# Altium integrated library Texas Instruments Interface RS-232.IntLib: 1272 symbols (part 1 of 37)
Pins are listed as number, name and electrical type; pins without a type are passive.

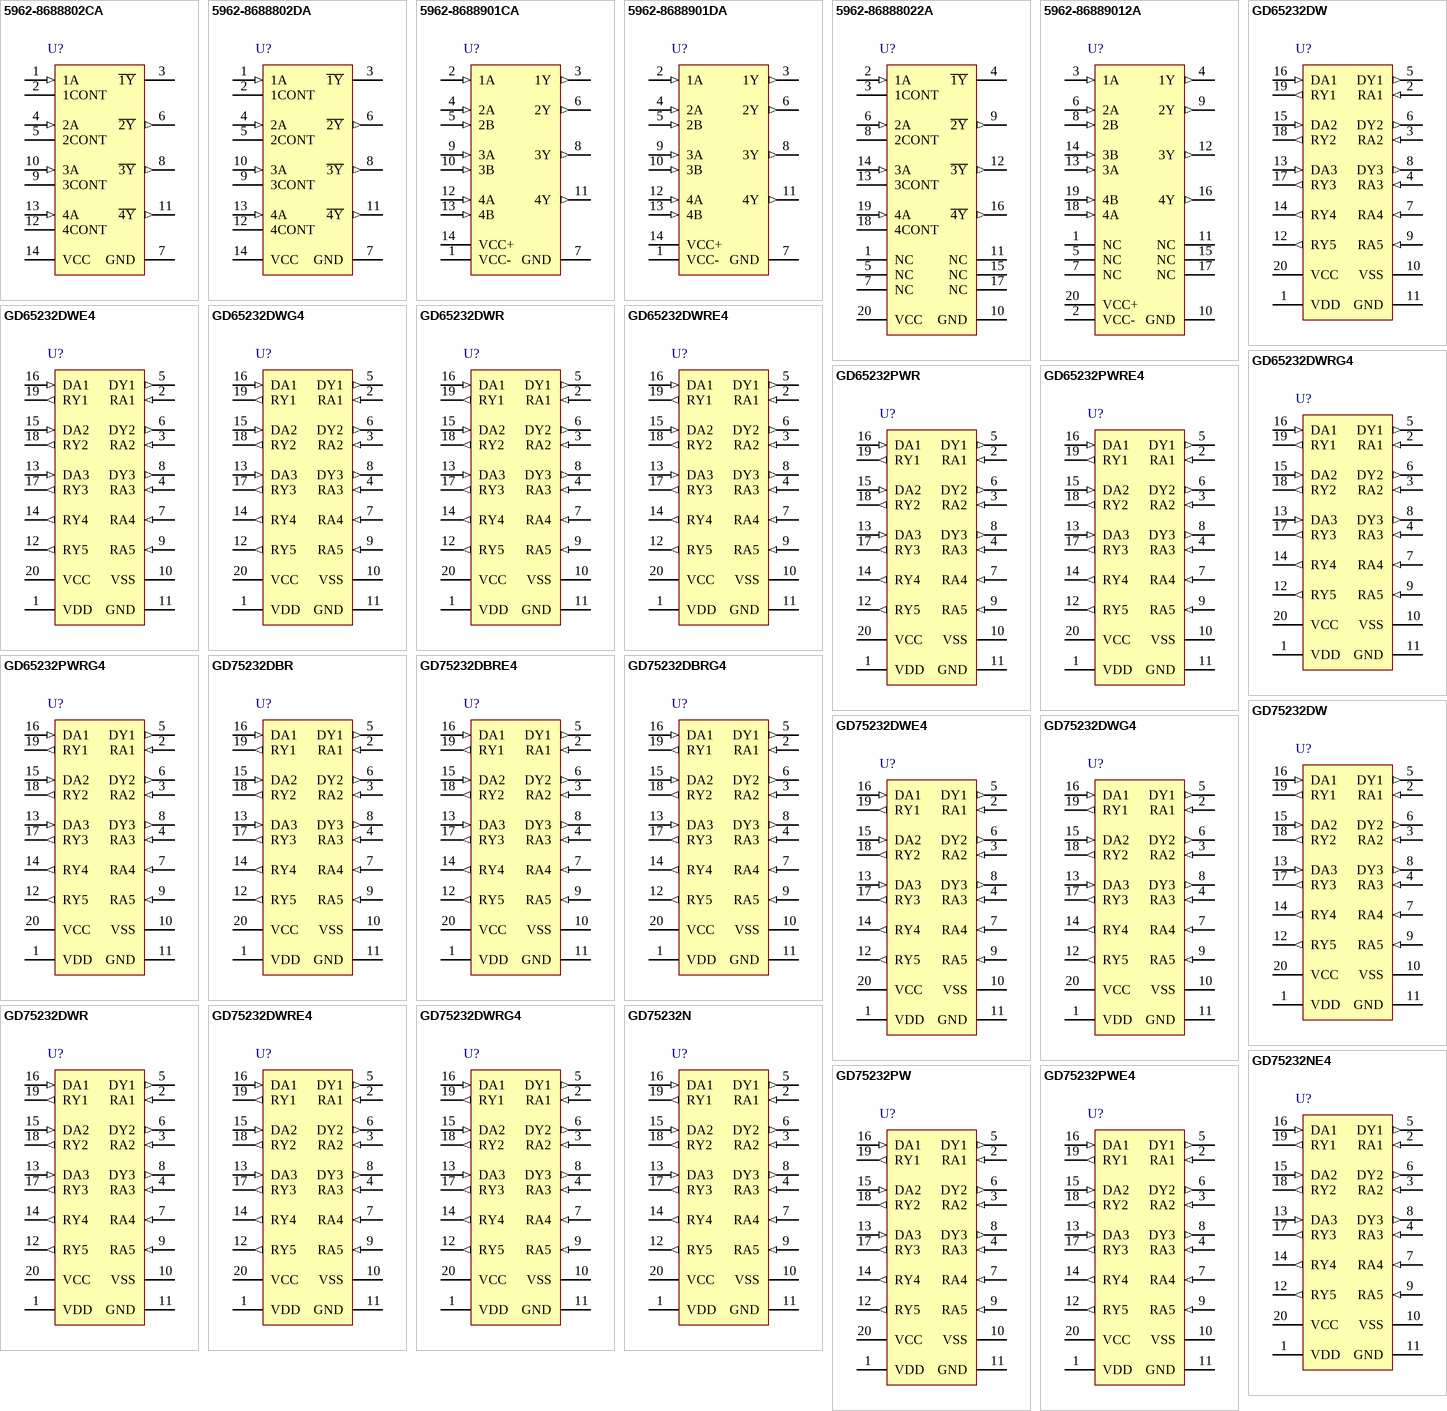
[diagram p0: symbols 5962-8688802CA to GD75232PWE4]

## 5962-8688802CA
designator U?
Quadruple Line Receiver, -55 to 125 degC, 14-Pin CDIP (J); SubFamily: RS-232; Receivers Per Package: 4; Supply Voltage(s)(V): 5; ICC(Max)(mA): 26; Single Supply: TRUE; DatasheetVersion: SLLS095D; PackageVersion: revF, Mar-2003; PackageReference: J14; PackageDescription: 14-Pin Ceramic Dual-In-Line Package, Row Spacing 7.62 mm, Pitch 2.54 mm; RS-232: TRUE; ComponentLink1Description: Manufacturer URL; ComponentLink1URL: www.ti.com; ComponentLink2Description: Datasheet; ComponentLink2URL: http://www.ti.com/general/docs/lit/getliterature.tsp?genericPartNumber=SN55189A&fileType=pdf; ComponentLink3Description: Package Specification; ComponentLink3URL: http://www.ti.com/litv/pdf/mcer002d
footprint TI-J14 (DIP, 14-Leads, Row Spacing 7.62mm, Pitch 2.54mm, Body 19.9x6.9mm)
pins: 1 1A (in), 2 1CONT, 3 ~{1Y} (oc), 4 2A (in), 5 2CONT, 6 ~{2Y} (out), 7 GND (power), 8 ~{3Y} (out), 9 3CONT, 10 3A (in), 11 ~{4Y} (out), 12 4CONT, 13 4A (in), 14 VCC (power)

## 5962-8688802DA
designator U?
Quadruple Line Receiver, -55 to 125 degC, 14-Pin CFP (W); SubFamily: RS-232; Receivers Per Package: 4; Supply Voltage(s)(V): 5; ICC(Max)(mA): 26; Single Supply: TRUE; DatasheetVersion: SLLS095D; PackageVersion: revD, Jul-2003; PackageReference: W14; PackageDescription: 14-Lead Ceramic Dual Flatpack, Body 9.9 x 6.6 mm (LxW max), Pitch 1.27 mm; RS-232: TRUE; ComponentLink1Description: Manufacturer URL; ComponentLink1URL: www.ti.com; ComponentLink2Description: Datasheet; ComponentLink2URL: http://www.ti.com/general/docs/lit/getliterature.tsp?genericPartNumber=SN55189A&fileType=pdf; ComponentLink3Description: Package Specification; ComponentLink3URL: http://www.ti.com/litv/pdf/mcfp002a
footprint TI-W14 (DFP, 14 Leads, Body 9.2x6.3mm, Pitch 1.27mm, Gullwing Leadform)
pins: 1 1A (in), 2 1CONT, 3 ~{1Y} (oc), 4 2A (in), 5 2CONT, 6 ~{2Y} (out), 7 GND (power), 8 ~{3Y} (out), 9 3CONT, 10 3A (in), 11 ~{4Y} (out), 12 4CONT, 13 4A (in), 14 VCC (power)

## 5962-8688901CA
designator U?
Quadruple Line Driver, -55 to 125 degC, 14-Pin CDIP (J); SubFamily: RS-232; Drivers Per Package: 4; Supply Voltage(s)(V): +/-9.0; ICC(Max)(mA): +/-34; RS-232: TRUE; DatasheetVersion: SLLS094C; PackageVersion: revF, Mar-2003; PackageReference: J14; PackageDescription: 14-Pin Ceramic Dual-In-Line Package, Row Spacing 7.62 mm, Pitch 2.54 mm; ComponentLink1Description: Manufacturer URL; ComponentLink1URL: www.ti.com; ComponentLink2Description: Datasheet; ComponentLink2URL: http://www.ti.com/general/docs/lit/getliterature.tsp?genericPartNumber=SN55188&fileType=pdf; ComponentLink3Description: Package Specification; ComponentLink3URL: http://www.ti.com/litv/pdf/mcer002d
footprint TI-J14 (DIP, 14-Leads, Row Spacing 7.62mm, Pitch 2.54mm, Body 19.9x6.9mm)
pins: 1 VCC- (power), 2 1A (in), 3 1Y (out), 4 2A (in), 5 2B (in), 6 2Y (out), 7 GND (power), 8 3Y (out), 9 3A (in), 10 3B (in), 11 4Y (out), 12 4A (in), 13 4B (in), 14 VCC+ (power)

## 5962-8688901DA
designator U?
Quadruple Line Driver, -55 to 125 degC, 14-Pin CFP (W); SubFamily: RS-232; Drivers Per Package: 4; Supply Voltage(s)(V): +/-9.0; ICC(Max)(mA): +/-34; RS-232: TRUE; DatasheetVersion: SLLS094C; PackageVersion: revD, Jul-2003; PackageReference: W14; PackageDescription: 14-Lead Ceramic Dual Flatpack, Body 9.9 x 6.6 mm (LxW max), Pitch 1.27 mm; ComponentLink1Description: Manufacturer URL; ComponentLink1URL: www.ti.com; ComponentLink2Description: Datasheet; ComponentLink2URL: http://www.ti.com/general/docs/lit/getliterature.tsp?genericPartNumber=SN55188&fileType=pdf; ComponentLink3Description: Package Specification; ComponentLink3URL: http://www.ti.com/litv/pdf/mcfp002a
footprint TI-W14 (DFP, 14 Leads, Body 9.2x6.3mm, Pitch 1.27mm, Gullwing Leadform)
pins: 1 VCC- (power), 2 1A (in), 3 1Y (out), 4 2A (in), 5 2B (in), 6 2Y (out), 7 GND (power), 8 3Y (out), 9 3A (in), 10 3B (in), 11 4Y (out), 12 4A (in), 13 4B (in), 14 VCC+ (power)

## 5962-86888022A
designator U?
Quadruple Line Receiver, -55 to 125 degC, 20-Pin LCCC (FK); SubFamily: RS-232; Receivers Per Package: 4; Supply Voltage(s)(V): 5; ICC(Max)(mA): 26; Single Supply: TRUE; DatasheetVersion: SLLS095D; PackageVersion: revD, Jan-2011; PackageReference: FK20; PackageDescription: 20-Pin Leadless Ceramic Chip Carrier, 1.27 mm Pitch; RS-232: TRUE; ComponentLink1Description: Manufacturer URL; ComponentLink1URL: www.ti.com; ComponentLink2Description: Datasheet; ComponentLink2URL: http://www.ti.com/general/docs/lit/getliterature.tsp?genericPartNumber=SN55189A&fileType=pdf; ComponentLink3Description: Package Specification; ComponentLink3URL: http://www.ti.com/litv/pdf/mlcc006d
footprint TI-FK20_N (Leadless Chip Carrier, 20-Leads, Body 8.9x8.9mm, Pitch 1.27mm, IPC Medium Density)
footprint TI-FK20_L (Leadless Chip Carrier, 20-Leads, Body 8.9x8.9mm, Pitch 1.27mm, IPC High Density)
footprint TI-FK20_M (Leadless Chip Carrier, 20-Leads, Body 8.9x8.9mm, Pitch 1.27mm, IPC Low Density)
pins: 1 NC, 2 1A (in), 3 1CONT, 4 ~{1Y} (oc), 5 NC, 6 2A (in), 7 NC, 8 2CONT, 9 ~{2Y} (out), 10 GND (power), 11 NC, 12 ~{3Y} (out), 13 3CONT, 14 3A (in), 15 NC, 16 ~{4Y} (out), 17 NC, 18 4CONT, 19 4A (in), 20 VCC (power)

## 5962-86889012A
designator U?
Quadruple Line Driver, -55 to 125 degC, 20-Pin LCCC (FK); SubFamily: RS-232; Drivers Per Package: 4; Supply Voltage(s)(V): +/-9.0; ICC(Max)(mA): +/-34; RS-232: TRUE; DatasheetVersion: SLLS094C; PackageVersion: revD, Jan-2011; PackageReference: FK20; PackageDescription: 20-Pin Leadless Ceramic Chip Carrier, 1.27 mm Pitch; ComponentLink1Description: Manufacturer URL; ComponentLink1URL: www.ti.com; ComponentLink2Description: Datasheet; ComponentLink2URL: http://www.ti.com/general/docs/lit/getliterature.tsp?genericPartNumber=SN55188&fileType=pdf; ComponentLink3Description: Package Specification; ComponentLink3URL: http://www.ti.com/litv/pdf/mlcc006d
footprint TI-FK20_N (Leadless Chip Carrier, 20-Leads, Body 8.9x8.9mm, Pitch 1.27mm, IPC Medium Density)
footprint TI-FK20_L (Leadless Chip Carrier, 20-Leads, Body 8.9x8.9mm, Pitch 1.27mm, IPC High Density)
footprint TI-FK20_M (Leadless Chip Carrier, 20-Leads, Body 8.9x8.9mm, Pitch 1.27mm, IPC Low Density)
pins: 1 NC, 2 VCC- (power), 3 1A (in), 4 1Y (out), 5 NC, 6 2A (in), 7 NC, 8 2B (in), 9 2Y (out), 10 GND (power), 11 NC, 12 3Y (out), 13 3A (in), 14 3B (in), 15 NC, 16 4Y (out), 17 NC, 18 4A (in), 19 4B (in), 20 VCC+ (power)

## GD65232DW
designator U?
Multiple RS-232 Driver / Receiver, -40 to 85 degC, 20-Pin SOIC (DW), Green (RoHS & no Sb/Br); Drivers Per Package: 3; Receivers Per Package: 5; Supply Voltage(s)(V): +/-9.0 & 5.0; ICC(Max)(mA): +/-25 & 38; RS-232: TRUE; DatasheetVersion: SLLS206J; PackageVersion: revG, Jan-2011; PackageReference: DW20; PackageDescription: 20-Pin Plastic Small Outline Integrated Circuit, 12.8 x 7.5 mm, Pitch 1.27 mm Pitch; SubFamily: RS-232; ComponentLink1Description: Manufacturer URL; ComponentLink1URL: www.ti.com; ComponentLink2Description: Datasheet; ComponentLink2URL: http://www.ti.com/general/docs/lit/getliterature.tsp?genericPartNumber=GD65232&fileType=pdf; ComponentLink3Description: Package Specification; ComponentLink3URL: http://www.ti.com/litv/pdf/mpds173a
footprint TI-DW20_N (SOIC, 20-Leads, Body 12.8x7.5mm, Pitch 1.27mm, IPC Medium Density)
footprint TI-DW20_L (SOIC, 20-Leads, Body 12.8x7.5mm, Pitch 1.27mm, IPC High Density)
footprint TI-DW20_M (SOIC, 20-Leads, Body 12.8x7.5mm, Pitch 1.27mm, IPC Low Density)
pins: 1 VDD (power), 2 RA1 (in), 3 RA2 (in), 4 RA3 (in), 5 DY1 (out), 6 DY2 (out), 7 RA4 (in), 8 DY3 (out), 9 RA5 (in), 10 VSS (power), 11 GND (power), 12 RY5 (out), 13 DA3 (in), 14 RY4 (out), 15 DA2 (in), 16 DA1 (in), 17 RY3 (out), 18 RY2 (out), 19 RY1 (out), 20 VCC (power)

## GD65232DWE4
designator U?
Multiple RS-232 Driver / Receiver, -40 to 85 degC, 20-Pin SOIC (DW), Green (RoHS & no Sb/Br); Drivers Per Package: 3; Receivers Per Package: 5; Supply Voltage(s)(V): +/-9.0 & 5.0; ICC(Max)(mA): +/-25 & 38; RS-232: TRUE; DatasheetVersion: SLLS206J; PackageVersion: revG, Jan-2011; PackageReference: DW20; PackageDescription: 20-Pin Plastic Small Outline Integrated Circuit, 12.8 x 7.5 mm, Pitch 1.27 mm Pitch; SubFamily: RS-232; ComponentLink1Description: Manufacturer URL; ComponentLink1URL: www.ti.com; ComponentLink2Description: Datasheet; ComponentLink2URL: http://www.ti.com/general/docs/lit/getliterature.tsp?genericPartNumber=GD65232&fileType=pdf; ComponentLink3Description: Package Specification; ComponentLink3URL: http://www.ti.com/litv/pdf/mpds173a
footprint TI-DW20_N (SOIC, 20-Leads, Body 12.8x7.5mm, Pitch 1.27mm, IPC Medium Density)
footprint TI-DW20_L (SOIC, 20-Leads, Body 12.8x7.5mm, Pitch 1.27mm, IPC High Density)
footprint TI-DW20_M (SOIC, 20-Leads, Body 12.8x7.5mm, Pitch 1.27mm, IPC Low Density)
pins: 1 VDD (power), 2 RA1 (in), 3 RA2 (in), 4 RA3 (in), 5 DY1 (out), 6 DY2 (out), 7 RA4 (in), 8 DY3 (out), 9 RA5 (in), 10 VSS (power), 11 GND (power), 12 RY5 (out), 13 DA3 (in), 14 RY4 (out), 15 DA2 (in), 16 DA1 (in), 17 RY3 (out), 18 RY2 (out), 19 RY1 (out), 20 VCC (power)

## GD65232DWG4
designator U?
Multiple RS-232 Driver / Receiver, -40 to 85 degC, 20-Pin SOIC (DW), Green (RoHS & no Sb/Br); Drivers Per Package: 3; Receivers Per Package: 5; Supply Voltage(s)(V): +/-9.0 & 5.0; ICC(Max)(mA): +/-25 & 38; RS-232: TRUE; DatasheetVersion: SLLS206J; PackageVersion: revG, Jan-2011; PackageReference: DW20; PackageDescription: 20-Pin Plastic Small Outline Integrated Circuit, 12.8 x 7.5 mm, Pitch 1.27 mm Pitch; SubFamily: RS-232; ComponentLink1Description: Manufacturer URL; ComponentLink1URL: www.ti.com; ComponentLink2Description: Datasheet; ComponentLink2URL: http://www.ti.com/general/docs/lit/getliterature.tsp?genericPartNumber=GD65232&fileType=pdf; ComponentLink3Description: Package Specification; ComponentLink3URL: http://www.ti.com/litv/pdf/mpds173a
footprint TI-DW20_N (SOIC, 20-Leads, Body 12.8x7.5mm, Pitch 1.27mm, IPC Medium Density)
footprint TI-DW20_L (SOIC, 20-Leads, Body 12.8x7.5mm, Pitch 1.27mm, IPC High Density)
footprint TI-DW20_M (SOIC, 20-Leads, Body 12.8x7.5mm, Pitch 1.27mm, IPC Low Density)
pins: 1 VDD (power), 2 RA1 (in), 3 RA2 (in), 4 RA3 (in), 5 DY1 (out), 6 DY2 (out), 7 RA4 (in), 8 DY3 (out), 9 RA5 (in), 10 VSS (power), 11 GND (power), 12 RY5 (out), 13 DA3 (in), 14 RY4 (out), 15 DA2 (in), 16 DA1 (in), 17 RY3 (out), 18 RY2 (out), 19 RY1 (out), 20 VCC (power)

## GD65232DWR
designator U?
Multiple RS-232 Driver / Receiver, -40 to 85 degC, 20-Pin SOIC (DW), Green (RoHS & no Sb/Br); Drivers Per Package: 3; Receivers Per Package: 5; Supply Voltage(s)(V): +/-9.0 & 5.0; ICC(Max)(mA): +/-25 & 38; RS-232: TRUE; DatasheetVersion: SLLS206J; PackageVersion: revG, Jan-2011; PackageReference: DW20; PackageDescription: 20-Pin Plastic Small Outline Integrated Circuit, 12.8 x 7.5 mm, Pitch 1.27 mm Pitch; SubFamily: RS-232; ComponentLink1Description: Manufacturer URL; ComponentLink1URL: www.ti.com; ComponentLink2Description: Datasheet; ComponentLink2URL: http://www.ti.com/general/docs/lit/getliterature.tsp?genericPartNumber=GD65232&fileType=pdf; ComponentLink3Description: Package Specification; ComponentLink3URL: http://www.ti.com/litv/pdf/mpds173a
footprint TI-DW20_N (SOIC, 20-Leads, Body 12.8x7.5mm, Pitch 1.27mm, IPC Medium Density)
footprint TI-DW20_L (SOIC, 20-Leads, Body 12.8x7.5mm, Pitch 1.27mm, IPC High Density)
footprint TI-DW20_M (SOIC, 20-Leads, Body 12.8x7.5mm, Pitch 1.27mm, IPC Low Density)
pins: 1 VDD (power), 2 RA1 (in), 3 RA2 (in), 4 RA3 (in), 5 DY1 (out), 6 DY2 (out), 7 RA4 (in), 8 DY3 (out), 9 RA5 (in), 10 VSS (power), 11 GND (power), 12 RY5 (out), 13 DA3 (in), 14 RY4 (out), 15 DA2 (in), 16 DA1 (in), 17 RY3 (out), 18 RY2 (out), 19 RY1 (out), 20 VCC (power)

## GD65232DWRE4
designator U?
Multiple RS-232 Driver / Receiver, -40 to 85 degC, 20-Pin SOIC (DW), Green (RoHS & no Sb/Br); Drivers Per Package: 3; Receivers Per Package: 5; Supply Voltage(s)(V): +/-9.0 & 5.0; ICC(Max)(mA): +/-25 & 38; RS-232: TRUE; DatasheetVersion: SLLS206J; PackageVersion: revG, Jan-2011; PackageReference: DW20; PackageDescription: 20-Pin Plastic Small Outline Integrated Circuit, 12.8 x 7.5 mm, Pitch 1.27 mm Pitch; SubFamily: RS-232; ComponentLink1Description: Manufacturer URL; ComponentLink1URL: www.ti.com; ComponentLink2Description: Datasheet; ComponentLink2URL: http://www.ti.com/general/docs/lit/getliterature.tsp?genericPartNumber=GD65232&fileType=pdf; ComponentLink3Description: Package Specification; ComponentLink3URL: http://www.ti.com/litv/pdf/mpds173a
footprint TI-DW20_N (SOIC, 20-Leads, Body 12.8x7.5mm, Pitch 1.27mm, IPC Medium Density)
footprint TI-DW20_L (SOIC, 20-Leads, Body 12.8x7.5mm, Pitch 1.27mm, IPC High Density)
footprint TI-DW20_M (SOIC, 20-Leads, Body 12.8x7.5mm, Pitch 1.27mm, IPC Low Density)
pins: 1 VDD (power), 2 RA1 (in), 3 RA2 (in), 4 RA3 (in), 5 DY1 (out), 6 DY2 (out), 7 RA4 (in), 8 DY3 (out), 9 RA5 (in), 10 VSS (power), 11 GND (power), 12 RY5 (out), 13 DA3 (in), 14 RY4 (out), 15 DA2 (in), 16 DA1 (in), 17 RY3 (out), 18 RY2 (out), 19 RY1 (out), 20 VCC (power)

## GD65232DWRG4
designator U?
Multiple RS-232 Driver / Receiver, -40 to 85 degC, 20-Pin SOIC (DW), Green (RoHS & no Sb/Br); Drivers Per Package: 3; Receivers Per Package: 5; Supply Voltage(s)(V): +/-9.0 & 5.0; ICC(Max)(mA): +/-25 & 38; RS-232: TRUE; DatasheetVersion: SLLS206J; PackageVersion: revG, Jan-2011; PackageReference: DW20; PackageDescription: 20-Pin Plastic Small Outline Integrated Circuit, 12.8 x 7.5 mm, Pitch 1.27 mm Pitch; SubFamily: RS-232; ComponentLink1Description: Manufacturer URL; ComponentLink1URL: www.ti.com; ComponentLink2Description: Datasheet; ComponentLink2URL: http://www.ti.com/general/docs/lit/getliterature.tsp?genericPartNumber=GD65232&fileType=pdf; ComponentLink3Description: Package Specification; ComponentLink3URL: http://www.ti.com/litv/pdf/mpds173a
footprint TI-DW20_N (SOIC, 20-Leads, Body 12.8x7.5mm, Pitch 1.27mm, IPC Medium Density)
footprint TI-DW20_L (SOIC, 20-Leads, Body 12.8x7.5mm, Pitch 1.27mm, IPC High Density)
footprint TI-DW20_M (SOIC, 20-Leads, Body 12.8x7.5mm, Pitch 1.27mm, IPC Low Density)
pins: 1 VDD (power), 2 RA1 (in), 3 RA2 (in), 4 RA3 (in), 5 DY1 (out), 6 DY2 (out), 7 RA4 (in), 8 DY3 (out), 9 RA5 (in), 10 VSS (power), 11 GND (power), 12 RY5 (out), 13 DA3 (in), 14 RY4 (out), 15 DA2 (in), 16 DA1 (in), 17 RY3 (out), 18 RY2 (out), 19 RY1 (out), 20 VCC (power)

## GD65232PWR
designator U?
Multiple RS-232 Driver / Receiver, -40 to 85 degC, 20-Pin TSSOP (PW), Green (RoHS & no Sb/Br); Drivers Per Package: 3; Receivers Per Package: 5; Supply Voltage(s)(V): +/-9.0 & 5.0; ICC(Max)(mA): +/-25 & 38; RS-232: TRUE; DatasheetVersion: SLLS206J; PackageVersion: revG, Feb-2011; PackageReference: PW20; PackageDescription: 20-Pin Plastic Thin Small Outline Package 6.5 x 4.4 mm Body ,0.65 mm Pitch; SubFamily: RS-232; ComponentLink1Description: Manufacturer URL; ComponentLink1URL: www.ti.com; ComponentLink2Description: Datasheet; ComponentLink2URL: http://www.ti.com/general/docs/lit/getliterature.tsp?genericPartNumber=GD65232&fileType=pdf; ComponentLink3Description: Package Specification; ComponentLink3URL: http://www.ti.com/litv/pdf/mpds362
footprint TI-PW20_N (TSOP, 20-Leads, Body 6.5x4.4mm, Pitch 0.65mm, IPC Medium Density)
footprint TI-PW20_L (TSOP, 20-Leads, Body 6.5x4.4mm, Pitch 0.65mm, IPC High Density)
footprint TI-PW20_M (TSOP, 20-Leads, Body 6.5x4.4mm, Pitch 0.65mm, IPC Low Density)
pins: 1 VDD (power), 2 RA1 (in), 3 RA2 (in), 4 RA3 (in), 5 DY1 (out), 6 DY2 (out), 7 RA4 (in), 8 DY3 (out), 9 RA5 (in), 10 VSS (power), 11 GND (power), 12 RY5 (out), 13 DA3 (in), 14 RY4 (out), 15 DA2 (in), 16 DA1 (in), 17 RY3 (out), 18 RY2 (out), 19 RY1 (out), 20 VCC (power)

## GD65232PWRE4
designator U?
Multiple RS-232 Driver / Receiver, -40 to 85 degC, 20-Pin TSSOP (PW), Green (RoHS & no Sb/Br); Drivers Per Package: 3; Receivers Per Package: 5; Supply Voltage(s)(V): +/-9.0 & 5.0; ICC(Max)(mA): +/-25 & 38; RS-232: TRUE; DatasheetVersion: SLLS206J; PackageVersion: revG, Feb-2011; PackageReference: PW20; PackageDescription: 20-Pin Plastic Thin Small Outline Package 6.5 x 4.4 mm Body ,0.65 mm Pitch; SubFamily: RS-232; ComponentLink1Description: Manufacturer URL; ComponentLink1URL: www.ti.com; ComponentLink2Description: Datasheet; ComponentLink2URL: http://www.ti.com/general/docs/lit/getliterature.tsp?genericPartNumber=GD65232&fileType=pdf; ComponentLink3Description: Package Specification; ComponentLink3URL: http://www.ti.com/litv/pdf/mpds362
footprint TI-PW20_N (TSOP, 20-Leads, Body 6.5x4.4mm, Pitch 0.65mm, IPC Medium Density)
footprint TI-PW20_L (TSOP, 20-Leads, Body 6.5x4.4mm, Pitch 0.65mm, IPC High Density)
footprint TI-PW20_M (TSOP, 20-Leads, Body 6.5x4.4mm, Pitch 0.65mm, IPC Low Density)
pins: 1 VDD (power), 2 RA1 (in), 3 RA2 (in), 4 RA3 (in), 5 DY1 (out), 6 DY2 (out), 7 RA4 (in), 8 DY3 (out), 9 RA5 (in), 10 VSS (power), 11 GND (power), 12 RY5 (out), 13 DA3 (in), 14 RY4 (out), 15 DA2 (in), 16 DA1 (in), 17 RY3 (out), 18 RY2 (out), 19 RY1 (out), 20 VCC (power)

## GD65232PWRG4
designator U?
Multiple RS-232 Driver / Receiver, -40 to 85 degC, 20-Pin TSSOP (PW), Green (RoHS & no Sb/Br); Drivers Per Package: 3; Receivers Per Package: 5; Supply Voltage(s)(V): +/-9.0 & 5.0; ICC(Max)(mA): +/-25 & 38; RS-232: TRUE; DatasheetVersion: SLLS206J; PackageVersion: revG, Feb-2011; PackageReference: PW20; PackageDescription: 20-Pin Plastic Thin Small Outline Package 6.5 x 4.4 mm Body ,0.65 mm Pitch; SubFamily: RS-232; ComponentLink1Description: Manufacturer URL; ComponentLink1URL: www.ti.com; ComponentLink2Description: Datasheet; ComponentLink2URL: http://www.ti.com/general/docs/lit/getliterature.tsp?genericPartNumber=GD65232&fileType=pdf; ComponentLink3Description: Package Specification; ComponentLink3URL: http://www.ti.com/litv/pdf/mpds362
footprint TI-PW20_N (TSOP, 20-Leads, Body 6.5x4.4mm, Pitch 0.65mm, IPC Medium Density)
footprint TI-PW20_L (TSOP, 20-Leads, Body 6.5x4.4mm, Pitch 0.65mm, IPC High Density)
footprint TI-PW20_M (TSOP, 20-Leads, Body 6.5x4.4mm, Pitch 0.65mm, IPC Low Density)
pins: 1 VDD (power), 2 RA1 (in), 3 RA2 (in), 4 RA3 (in), 5 DY1 (out), 6 DY2 (out), 7 RA4 (in), 8 DY3 (out), 9 RA5 (in), 10 VSS (power), 11 GND (power), 12 RY5 (out), 13 DA3 (in), 14 RY4 (out), 15 DA2 (in), 16 DA1 (in), 17 RY3 (out), 18 RY2 (out), 19 RY1 (out), 20 VCC (power)

## GD75232DBR
designator U?
Multiple RS-232 Driver / Receiver, 0 to 70 degC, 20-Pin SSOP (DB), Green (RoHS & no Sb/Br); Drivers Per Package: 3; Receivers Per Package: 5; Supply Voltage(s)(V): +/-9.0 & 5.0; ICC(Max)(mA): +/-25 & 30; RS-232: TRUE; DatasheetVersion: SLLS206J; PackageVersion: revE, Dec-2001; PackageReference: DB20; PackageDescription: 20-Pin Plastic Small Outline Package, 7.2 x 5.3 mm Body, 0.65 mm Pitch; SubFamily: RS-232; ComponentLink1Description: Manufacturer URL; ComponentLink1URL: www.ti.com; ComponentLink2Description: Datasheet; ComponentLink2URL: http://www.ti.com/general/docs/lit/getliterature.tsp?genericPartNumber=GD75232&fileType=pdf; ComponentLink3Description: Package Specification; ComponentLink3URL: http://www.ti.com/litv/pdf/msso002e
footprint TI-DB20_N (SOP, 20-Leads, Body 7.2x5.3mm, Pitch 0.65mm, IPC Medium Density)
footprint TI-DB20_L (SOP, 20-Leads, Body 7.2x5.3mm, Pitch 0.65mm, IPC High Density)
footprint TI-DB20_M (SOP, 20-Leads, Body 7.2x5.3mm, Pitch 0.65mm, IPC Low Density)
pins: 1 VDD (power), 2 RA1 (in), 3 RA2 (in), 4 RA3 (in), 5 DY1 (out), 6 DY2 (out), 7 RA4 (in), 8 DY3 (out), 9 RA5 (in), 10 VSS (power), 11 GND (power), 12 RY5 (out), 13 DA3 (in), 14 RY4 (out), 15 DA2 (in), 16 DA1 (in), 17 RY3 (out), 18 RY2 (out), 19 RY1 (out), 20 VCC (power)

## GD75232DBRE4
designator U?
Multiple RS-232 Driver / Receiver, 0 to 70 degC, 20-Pin SSOP (DB), Green (RoHS & no Sb/Br); Drivers Per Package: 3; Receivers Per Package: 5; Supply Voltage(s)(V): +/-9.0 & 5.0; ICC(Max)(mA): +/-25 & 30; RS-232: TRUE; DatasheetVersion: SLLS206J; PackageVersion: revE, Dec-2001; PackageReference: DB20; PackageDescription: 20-Pin Plastic Small Outline Package, 7.2 x 5.3 mm Body, 0.65 mm Pitch; SubFamily: RS-232; ComponentLink1Description: Manufacturer URL; ComponentLink1URL: www.ti.com; ComponentLink2Description: Datasheet; ComponentLink2URL: http://www.ti.com/general/docs/lit/getliterature.tsp?genericPartNumber=GD75232&fileType=pdf; ComponentLink3Description: Package Specification; ComponentLink3URL: http://www.ti.com/litv/pdf/msso002e
footprint TI-DB20_N (SOP, 20-Leads, Body 7.2x5.3mm, Pitch 0.65mm, IPC Medium Density)
footprint TI-DB20_L (SOP, 20-Leads, Body 7.2x5.3mm, Pitch 0.65mm, IPC High Density)
footprint TI-DB20_M (SOP, 20-Leads, Body 7.2x5.3mm, Pitch 0.65mm, IPC Low Density)
pins: 1 VDD (power), 2 RA1 (in), 3 RA2 (in), 4 RA3 (in), 5 DY1 (out), 6 DY2 (out), 7 RA4 (in), 8 DY3 (out), 9 RA5 (in), 10 VSS (power), 11 GND (power), 12 RY5 (out), 13 DA3 (in), 14 RY4 (out), 15 DA2 (in), 16 DA1 (in), 17 RY3 (out), 18 RY2 (out), 19 RY1 (out), 20 VCC (power)

## GD75232DBRG4
designator U?
Multiple RS-232 Driver / Receiver, 0 to 70 degC, 20-Pin SSOP (DB), Green (RoHS & no Sb/Br); Drivers Per Package: 3; Receivers Per Package: 5; Supply Voltage(s)(V): +/-9.0 & 5.0; ICC(Max)(mA): +/-25 & 30; RS-232: TRUE; DatasheetVersion: SLLS206J; PackageVersion: revE, Dec-2001; PackageReference: DB20; PackageDescription: 20-Pin Plastic Small Outline Package, 7.2 x 5.3 mm Body, 0.65 mm Pitch; SubFamily: RS-232; ComponentLink1Description: Manufacturer URL; ComponentLink1URL: www.ti.com; ComponentLink2Description: Datasheet; ComponentLink2URL: http://www.ti.com/general/docs/lit/getliterature.tsp?genericPartNumber=GD75232&fileType=pdf; ComponentLink3Description: Package Specification; ComponentLink3URL: http://www.ti.com/litv/pdf/msso002e
footprint TI-DB20_N (SOP, 20-Leads, Body 7.2x5.3mm, Pitch 0.65mm, IPC Medium Density)
footprint TI-DB20_L (SOP, 20-Leads, Body 7.2x5.3mm, Pitch 0.65mm, IPC High Density)
footprint TI-DB20_M (SOP, 20-Leads, Body 7.2x5.3mm, Pitch 0.65mm, IPC Low Density)
pins: 1 VDD (power), 2 RA1 (in), 3 RA2 (in), 4 RA3 (in), 5 DY1 (out), 6 DY2 (out), 7 RA4 (in), 8 DY3 (out), 9 RA5 (in), 10 VSS (power), 11 GND (power), 12 RY5 (out), 13 DA3 (in), 14 RY4 (out), 15 DA2 (in), 16 DA1 (in), 17 RY3 (out), 18 RY2 (out), 19 RY1 (out), 20 VCC (power)

## GD75232DW
designator U?
Multiple RS-232 Driver / Receiver, 0 to 70 degC, 20-Pin SOIC (DW), Green (RoHS & no Sb/Br); Drivers Per Package: 3; Receivers Per Package: 5; Supply Voltage(s)(V): +/-9.0 & 5.0; ICC(Max)(mA): +/-25 & 30; RS-232: TRUE; DatasheetVersion: SLLS206J; PackageVersion: revG, Jan-2011; PackageReference: DW20; PackageDescription: 20-Pin Plastic Small Outline Integrated Circuit, 12.8 x 7.5 mm, Pitch 1.27 mm Pitch; SubFamily: RS-232; ComponentLink1Description: Manufacturer URL; ComponentLink1URL: www.ti.com; ComponentLink2Description: Datasheet; ComponentLink2URL: http://www.ti.com/general/docs/lit/getliterature.tsp?genericPartNumber=GD75232&fileType=pdf; ComponentLink3Description: Package Specification; ComponentLink3URL: http://www.ti.com/litv/pdf/mpds173a
footprint TI-DW20_N (SOIC, 20-Leads, Body 12.8x7.5mm, Pitch 1.27mm, IPC Medium Density)
footprint TI-DW20_L (SOIC, 20-Leads, Body 12.8x7.5mm, Pitch 1.27mm, IPC High Density)
footprint TI-DW20_M (SOIC, 20-Leads, Body 12.8x7.5mm, Pitch 1.27mm, IPC Low Density)
pins: 1 VDD (power), 2 RA1 (in), 3 RA2 (in), 4 RA3 (in), 5 DY1 (out), 6 DY2 (out), 7 RA4 (in), 8 DY3 (out), 9 RA5 (in), 10 VSS (power), 11 GND (power), 12 RY5 (out), 13 DA3 (in), 14 RY4 (out), 15 DA2 (in), 16 DA1 (in), 17 RY3 (out), 18 RY2 (out), 19 RY1 (out), 20 VCC (power)

## GD75232DWE4
designator U?
Multiple RS-232 Driver / Receiver, 0 to 70 degC, 20-Pin SOIC (DW), Green (RoHS & no Sb/Br); Drivers Per Package: 3; Receivers Per Package: 5; Supply Voltage(s)(V): +/-9.0 & 5.0; ICC(Max)(mA): +/-25 & 30; RS-232: TRUE; DatasheetVersion: SLLS206J; PackageVersion: revG, Jan-2011; PackageReference: DW20; PackageDescription: 20-Pin Plastic Small Outline Integrated Circuit, 12.8 x 7.5 mm, Pitch 1.27 mm Pitch; SubFamily: RS-232; ComponentLink1Description: Manufacturer URL; ComponentLink1URL: www.ti.com; ComponentLink2Description: Datasheet; ComponentLink2URL: http://www.ti.com/general/docs/lit/getliterature.tsp?genericPartNumber=GD75232&fileType=pdf; ComponentLink3Description: Package Specification; ComponentLink3URL: http://www.ti.com/litv/pdf/mpds173a
footprint TI-DW20_N (SOIC, 20-Leads, Body 12.8x7.5mm, Pitch 1.27mm, IPC Medium Density)
footprint TI-DW20_L (SOIC, 20-Leads, Body 12.8x7.5mm, Pitch 1.27mm, IPC High Density)
footprint TI-DW20_M (SOIC, 20-Leads, Body 12.8x7.5mm, Pitch 1.27mm, IPC Low Density)
pins: 1 VDD (power), 2 RA1 (in), 3 RA2 (in), 4 RA3 (in), 5 DY1 (out), 6 DY2 (out), 7 RA4 (in), 8 DY3 (out), 9 RA5 (in), 10 VSS (power), 11 GND (power), 12 RY5 (out), 13 DA3 (in), 14 RY4 (out), 15 DA2 (in), 16 DA1 (in), 17 RY3 (out), 18 RY2 (out), 19 RY1 (out), 20 VCC (power)

## GD75232DWG4
designator U?
Multiple RS-232 Driver / Receiver, 0 to 70 degC, 20-Pin SOIC (DW), Green (RoHS & no Sb/Br); Drivers Per Package: 3; Receivers Per Package: 5; Supply Voltage(s)(V): +/-9.0 & 5.0; ICC(Max)(mA): +/-25 & 30; RS-232: TRUE; DatasheetVersion: SLLS206J; PackageVersion: revG, Jan-2011; PackageReference: DW20; PackageDescription: 20-Pin Plastic Small Outline Integrated Circuit, 12.8 x 7.5 mm, Pitch 1.27 mm Pitch; SubFamily: RS-232; ComponentLink1Description: Manufacturer URL; ComponentLink1URL: www.ti.com; ComponentLink2Description: Datasheet; ComponentLink2URL: http://www.ti.com/general/docs/lit/getliterature.tsp?genericPartNumber=GD75232&fileType=pdf; ComponentLink3Description: Package Specification; ComponentLink3URL: http://www.ti.com/litv/pdf/mpds173a
footprint TI-DW20_N (SOIC, 20-Leads, Body 12.8x7.5mm, Pitch 1.27mm, IPC Medium Density)
footprint TI-DW20_L (SOIC, 20-Leads, Body 12.8x7.5mm, Pitch 1.27mm, IPC High Density)
footprint TI-DW20_M (SOIC, 20-Leads, Body 12.8x7.5mm, Pitch 1.27mm, IPC Low Density)
pins: 1 VDD (power), 2 RA1 (in), 3 RA2 (in), 4 RA3 (in), 5 DY1 (out), 6 DY2 (out), 7 RA4 (in), 8 DY3 (out), 9 RA5 (in), 10 VSS (power), 11 GND (power), 12 RY5 (out), 13 DA3 (in), 14 RY4 (out), 15 DA2 (in), 16 DA1 (in), 17 RY3 (out), 18 RY2 (out), 19 RY1 (out), 20 VCC (power)

## GD75232DWR
designator U?
Multiple RS-232 Driver / Receiver, 0 to 70 degC, 20-Pin SOIC (DW), Green (RoHS & no Sb/Br); Drivers Per Package: 3; Receivers Per Package: 5; Supply Voltage(s)(V): +/-9.0 & 5.0; ICC(Max)(mA): +/-25 & 30; RS-232: TRUE; DatasheetVersion: SLLS206J; PackageVersion: revG, Jan-2011; PackageReference: DW20; PackageDescription: 20-Pin Plastic Small Outline Integrated Circuit, 12.8 x 7.5 mm, Pitch 1.27 mm Pitch; SubFamily: RS-232; ComponentLink1Description: Manufacturer URL; ComponentLink1URL: www.ti.com; ComponentLink2Description: Datasheet; ComponentLink2URL: http://www.ti.com/general/docs/lit/getliterature.tsp?genericPartNumber=GD75232&fileType=pdf; ComponentLink3Description: Package Specification; ComponentLink3URL: http://www.ti.com/litv/pdf/mpds173a
footprint TI-DW20_N (SOIC, 20-Leads, Body 12.8x7.5mm, Pitch 1.27mm, IPC Medium Density)
footprint TI-DW20_L (SOIC, 20-Leads, Body 12.8x7.5mm, Pitch 1.27mm, IPC High Density)
footprint TI-DW20_M (SOIC, 20-Leads, Body 12.8x7.5mm, Pitch 1.27mm, IPC Low Density)
pins: 1 VDD (power), 2 RA1 (in), 3 RA2 (in), 4 RA3 (in), 5 DY1 (out), 6 DY2 (out), 7 RA4 (in), 8 DY3 (out), 9 RA5 (in), 10 VSS (power), 11 GND (power), 12 RY5 (out), 13 DA3 (in), 14 RY4 (out), 15 DA2 (in), 16 DA1 (in), 17 RY3 (out), 18 RY2 (out), 19 RY1 (out), 20 VCC (power)

## GD75232DWRE4
designator U?
Multiple RS-232 Driver / Receiver, 0 to 70 degC, 20-Pin SOIC (DW), Green (RoHS & no Sb/Br); Drivers Per Package: 3; Receivers Per Package: 5; Supply Voltage(s)(V): +/-9.0 & 5.0; ICC(Max)(mA): +/-25 & 30; RS-232: TRUE; DatasheetVersion: SLLS206J; PackageVersion: revG, Jan-2011; PackageReference: DW20; PackageDescription: 20-Pin Plastic Small Outline Integrated Circuit, 12.8 x 7.5 mm, Pitch 1.27 mm Pitch; SubFamily: RS-232; ComponentLink1Description: Manufacturer URL; ComponentLink1URL: www.ti.com; ComponentLink2Description: Datasheet; ComponentLink2URL: http://www.ti.com/general/docs/lit/getliterature.tsp?genericPartNumber=GD75232&fileType=pdf; ComponentLink3Description: Package Specification; ComponentLink3URL: http://www.ti.com/litv/pdf/mpds173a
footprint TI-DW20_N (SOIC, 20-Leads, Body 12.8x7.5mm, Pitch 1.27mm, IPC Medium Density)
footprint TI-DW20_L (SOIC, 20-Leads, Body 12.8x7.5mm, Pitch 1.27mm, IPC High Density)
footprint TI-DW20_M (SOIC, 20-Leads, Body 12.8x7.5mm, Pitch 1.27mm, IPC Low Density)
pins: 1 VDD (power), 2 RA1 (in), 3 RA2 (in), 4 RA3 (in), 5 DY1 (out), 6 DY2 (out), 7 RA4 (in), 8 DY3 (out), 9 RA5 (in), 10 VSS (power), 11 GND (power), 12 RY5 (out), 13 DA3 (in), 14 RY4 (out), 15 DA2 (in), 16 DA1 (in), 17 RY3 (out), 18 RY2 (out), 19 RY1 (out), 20 VCC (power)

## GD75232DWRG4
designator U?
Multiple RS-232 Driver / Receiver, 0 to 70 degC, 20-Pin SOIC (DW), Green (RoHS & no Sb/Br); Drivers Per Package: 3; Receivers Per Package: 5; Supply Voltage(s)(V): +/-9.0 & 5.0; ICC(Max)(mA): +/-25 & 30; RS-232: TRUE; DatasheetVersion: SLLS206J; PackageVersion: revG, Jan-2011; PackageReference: DW20; PackageDescription: 20-Pin Plastic Small Outline Integrated Circuit, 12.8 x 7.5 mm, Pitch 1.27 mm Pitch; SubFamily: RS-232; ComponentLink1Description: Manufacturer URL; ComponentLink1URL: www.ti.com; ComponentLink2Description: Datasheet; ComponentLink2URL: http://www.ti.com/general/docs/lit/getliterature.tsp?genericPartNumber=GD75232&fileType=pdf; ComponentLink3Description: Package Specification; ComponentLink3URL: http://www.ti.com/litv/pdf/mpds173a
footprint TI-DW20_N (SOIC, 20-Leads, Body 12.8x7.5mm, Pitch 1.27mm, IPC Medium Density)
footprint TI-DW20_L (SOIC, 20-Leads, Body 12.8x7.5mm, Pitch 1.27mm, IPC High Density)
footprint TI-DW20_M (SOIC, 20-Leads, Body 12.8x7.5mm, Pitch 1.27mm, IPC Low Density)
pins: 1 VDD (power), 2 RA1 (in), 3 RA2 (in), 4 RA3 (in), 5 DY1 (out), 6 DY2 (out), 7 RA4 (in), 8 DY3 (out), 9 RA5 (in), 10 VSS (power), 11 GND (power), 12 RY5 (out), 13 DA3 (in), 14 RY4 (out), 15 DA2 (in), 16 DA1 (in), 17 RY3 (out), 18 RY2 (out), 19 RY1 (out), 20 VCC (power)

## GD75232N
designator U?
Multiple RS-232 Driver / Receiver, 0 to 70 degC, 20-Pin PDIP (N), Pb-Free (RoHS); Drivers Per Package: 3; Receivers Per Package: 5; Supply Voltage(s)(V): +/-9.0 & 5.0; ICC(Max)(mA): +/-25 & 30; RS-232: TRUE; DatasheetVersion: SLLS206J; PackageVersion: revE, Dec-2002; PackageReference: N20; PackageDescription: 20-Pin Plastic Dual-In-Line Package, Row Spacing 7.62 mm, Pitch 2.54 mm; SubFamily: RS-232; ComponentLink1Description: Manufacturer URL; ComponentLink1URL: www.ti.com; ComponentLink2Description: Datasheet; ComponentLink2URL: http://www.ti.com/general/docs/lit/getliterature.tsp?genericPartNumber=GD75232&fileType=pdf; ComponentLink3Description: Package Specification; ComponentLink3URL: http://www.ti.com/litv/pdf/mpdi002c
footprint TI-N20 (DIP, 20-Leads, Row Spacing 7.62mm, Pitch 2.54mm, Body 25.4x6.4mm)
pins: 1 VDD (power), 2 RA1 (in), 3 RA2 (in), 4 RA3 (in), 5 DY1 (out), 6 DY2 (out), 7 RA4 (in), 8 DY3 (out), 9 RA5 (in), 10 VSS (power), 11 GND (power), 12 RY5 (out), 13 DA3 (in), 14 RY4 (out), 15 DA2 (in), 16 DA1 (in), 17 RY3 (out), 18 RY2 (out), 19 RY1 (out), 20 VCC (power)

## GD75232NE4
designator U?
Multiple RS-232 Driver / Receiver, 0 to 70 degC, 20-Pin PDIP (N), Pb-Free (RoHS); Drivers Per Package: 3; Receivers Per Package: 5; Supply Voltage(s)(V): +/-9.0 & 5.0; ICC(Max)(mA): +/-25 & 30; RS-232: TRUE; DatasheetVersion: SLLS206J; PackageVersion: revE, Dec-2002; PackageReference: N20; PackageDescription: 20-Pin Plastic Dual-In-Line Package, Row Spacing 7.62 mm, Pitch 2.54 mm; SubFamily: RS-232; ComponentLink1Description: Manufacturer URL; ComponentLink1URL: www.ti.com; ComponentLink2Description: Datasheet; ComponentLink2URL: http://www.ti.com/general/docs/lit/getliterature.tsp?genericPartNumber=GD75232&fileType=pdf; ComponentLink3Description: Package Specification; ComponentLink3URL: http://www.ti.com/litv/pdf/mpdi002c
footprint TI-N20 (DIP, 20-Leads, Row Spacing 7.62mm, Pitch 2.54mm, Body 25.4x6.4mm)
pins: 1 VDD (power), 2 RA1 (in), 3 RA2 (in), 4 RA3 (in), 5 DY1 (out), 6 DY2 (out), 7 RA4 (in), 8 DY3 (out), 9 RA5 (in), 10 VSS (power), 11 GND (power), 12 RY5 (out), 13 DA3 (in), 14 RY4 (out), 15 DA2 (in), 16 DA1 (in), 17 RY3 (out), 18 RY2 (out), 19 RY1 (out), 20 VCC (power)

## GD75232PW
designator U?
Multiple RS-232 Driver / Receiver, 0 to 70 degC, 20-Pin TSSOP (PW), Green (RoHS & no Sb/Br); Drivers Per Package: 3; Receivers Per Package: 5; Supply Voltage(s)(V): +/-9.0 & 5.0; ICC(Max)(mA): +/-25 & 30; RS-232: TRUE; DatasheetVersion: SLLS206J; PackageVersion: revG, Feb-2011; PackageReference: PW20; PackageDescription: 20-Pin Plastic Thin Small Outline Package 6.5 x 4.4 mm Body ,0.65 mm Pitch; SubFamily: RS-232; ComponentLink1Description: Manufacturer URL; ComponentLink1URL: www.ti.com; ComponentLink2Description: Datasheet; ComponentLink2URL: http://www.ti.com/general/docs/lit/getliterature.tsp?genericPartNumber=GD75232&fileType=pdf; ComponentLink3Description: Package Specification; ComponentLink3URL: http://www.ti.com/litv/pdf/mpds362
footprint TI-PW20_N (TSOP, 20-Leads, Body 6.5x4.4mm, Pitch 0.65mm, IPC Medium Density)
footprint TI-PW20_L (TSOP, 20-Leads, Body 6.5x4.4mm, Pitch 0.65mm, IPC High Density)
footprint TI-PW20_M (TSOP, 20-Leads, Body 6.5x4.4mm, Pitch 0.65mm, IPC Low Density)
pins: 1 VDD (power), 2 RA1 (in), 3 RA2 (in), 4 RA3 (in), 5 DY1 (out), 6 DY2 (out), 7 RA4 (in), 8 DY3 (out), 9 RA5 (in), 10 VSS (power), 11 GND (power), 12 RY5 (out), 13 DA3 (in), 14 RY4 (out), 15 DA2 (in), 16 DA1 (in), 17 RY3 (out), 18 RY2 (out), 19 RY1 (out), 20 VCC (power)

## GD75232PWE4
designator U?
Multiple RS-232 Driver / Receiver, 0 to 70 degC, 20-Pin TSSOP (PW), Green (RoHS & no Sb/Br); Drivers Per Package: 3; Receivers Per Package: 5; Supply Voltage(s)(V): +/-9.0 & 5.0; ICC(Max)(mA): +/-25 & 30; RS-232: TRUE; DatasheetVersion: SLLS206J; PackageVersion: revG, Feb-2011; PackageReference: PW20; PackageDescription: 20-Pin Plastic Thin Small Outline Package 6.5 x 4.4 mm Body ,0.65 mm Pitch; SubFamily: RS-232; ComponentLink1Description: Manufacturer URL; ComponentLink1URL: www.ti.com; ComponentLink2Description: Datasheet; ComponentLink2URL: http://www.ti.com/general/docs/lit/getliterature.tsp?genericPartNumber=GD75232&fileType=pdf; ComponentLink3Description: Package Specification; ComponentLink3URL: http://www.ti.com/litv/pdf/mpds362
footprint TI-PW20_N (TSOP, 20-Leads, Body 6.5x4.4mm, Pitch 0.65mm, IPC Medium Density)
footprint TI-PW20_L (TSOP, 20-Leads, Body 6.5x4.4mm, Pitch 0.65mm, IPC High Density)
footprint TI-PW20_M (TSOP, 20-Leads, Body 6.5x4.4mm, Pitch 0.65mm, IPC Low Density)
pins: 1 VDD (power), 2 RA1 (in), 3 RA2 (in), 4 RA3 (in), 5 DY1 (out), 6 DY2 (out), 7 RA4 (in), 8 DY3 (out), 9 RA5 (in), 10 VSS (power), 11 GND (power), 12 RY5 (out), 13 DA3 (in), 14 RY4 (out), 15 DA2 (in), 16 DA1 (in), 17 RY3 (out), 18 RY2 (out), 19 RY1 (out), 20 VCC (power)

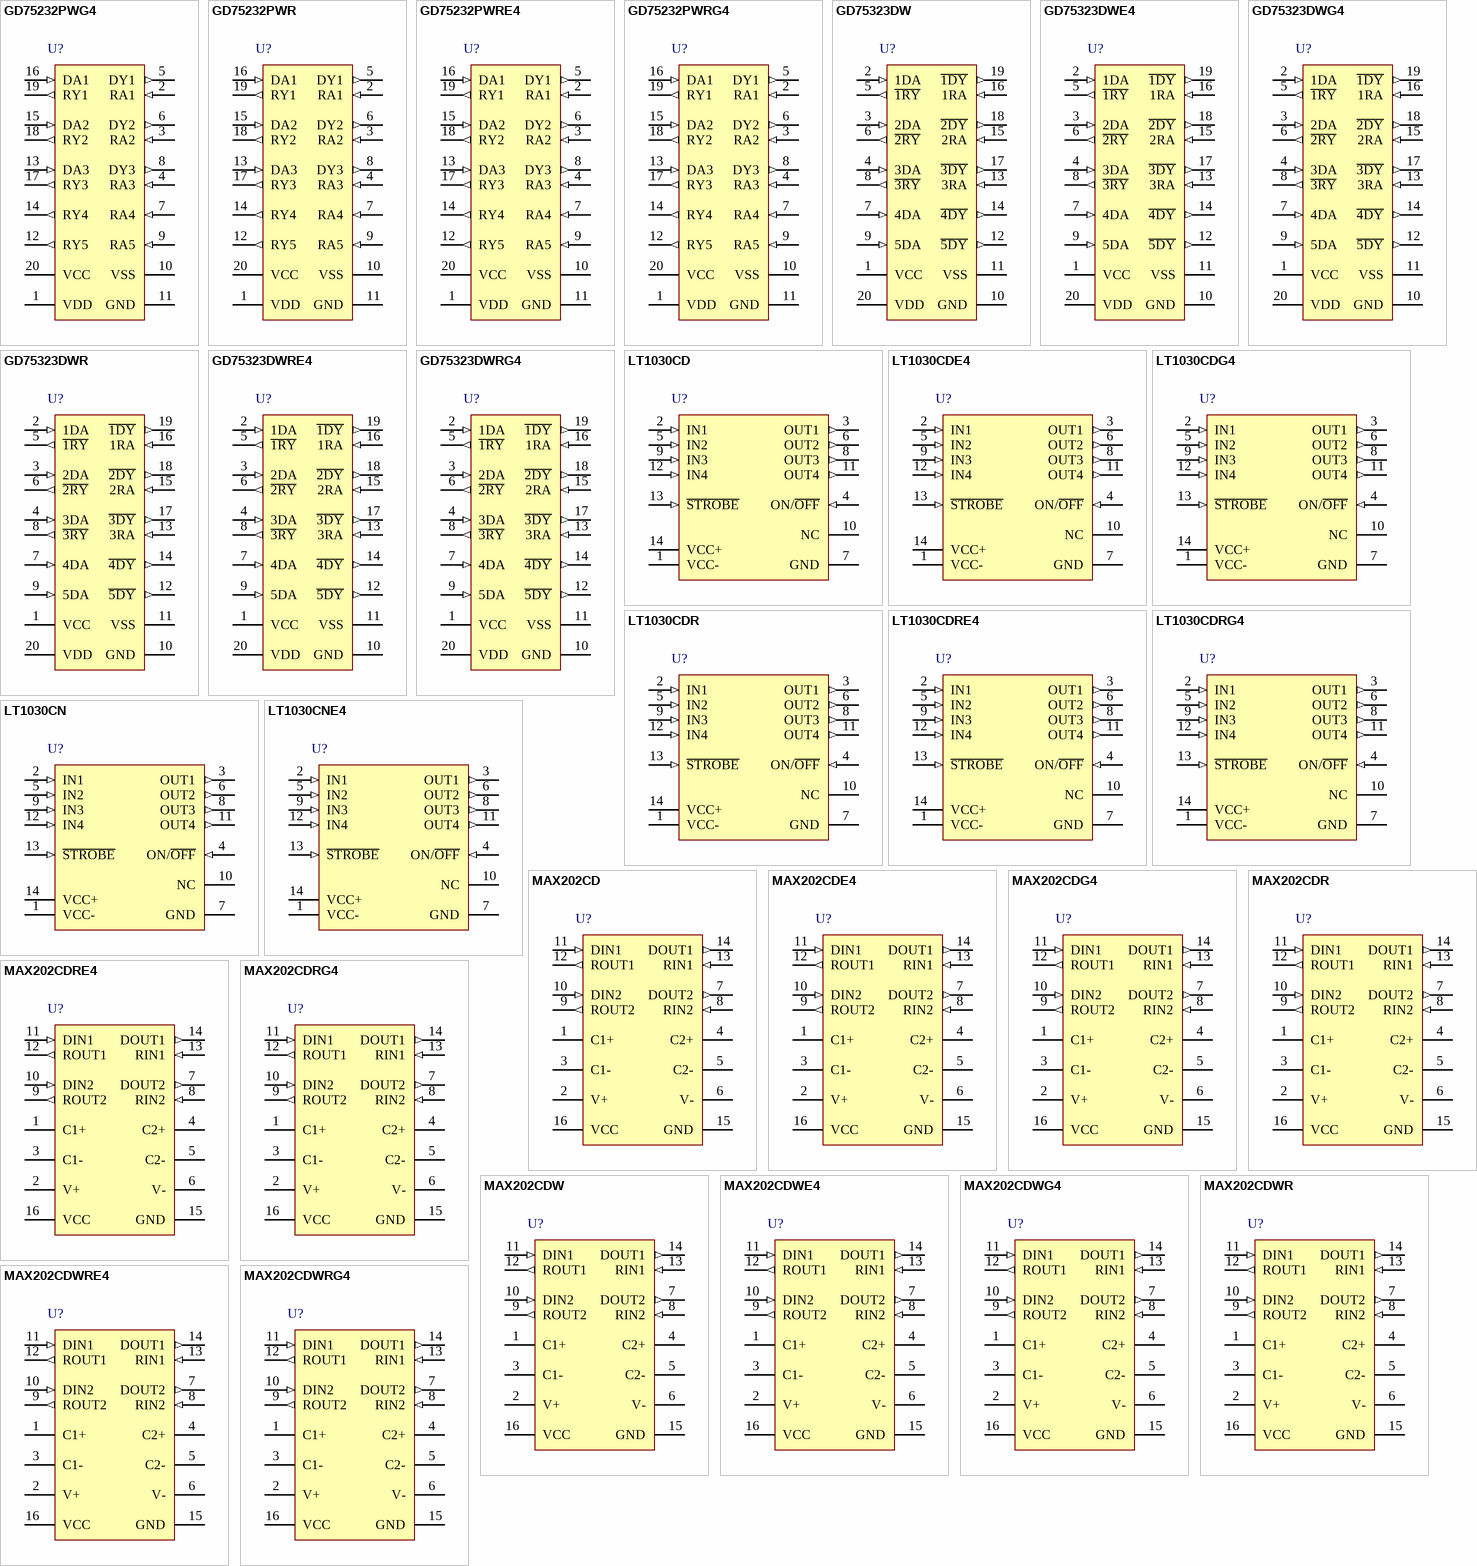
[diagram p1: symbols GD75232PWG4 to MAX202CDWRG4]

## GD75232PWG4
designator U?
Multiple RS-232 Driver / Receiver, 0 to 70 degC, 20-Pin TSSOP (PW), Green (RoHS & no Sb/Br); Drivers Per Package: 3; Receivers Per Package: 5; Supply Voltage(s)(V): +/-9.0 & 5.0; ICC(Max)(mA): +/-25 & 30; RS-232: TRUE; DatasheetVersion: SLLS206J; PackageVersion: revG, Feb-2011; PackageReference: PW20; PackageDescription: 20-Pin Plastic Thin Small Outline Package 6.5 x 4.4 mm Body ,0.65 mm Pitch; SubFamily: RS-232; ComponentLink1Description: Manufacturer URL; ComponentLink1URL: www.ti.com; ComponentLink2Description: Datasheet; ComponentLink2URL: http://www.ti.com/general/docs/lit/getliterature.tsp?genericPartNumber=GD75232&fileType=pdf; ComponentLink3Description: Package Specification; ComponentLink3URL: http://www.ti.com/litv/pdf/mpds362
footprint TI-PW20_N (TSOP, 20-Leads, Body 6.5x4.4mm, Pitch 0.65mm, IPC Medium Density)
footprint TI-PW20_L (TSOP, 20-Leads, Body 6.5x4.4mm, Pitch 0.65mm, IPC High Density)
footprint TI-PW20_M (TSOP, 20-Leads, Body 6.5x4.4mm, Pitch 0.65mm, IPC Low Density)
pins: 1 VDD (power), 2 RA1 (in), 3 RA2 (in), 4 RA3 (in), 5 DY1 (out), 6 DY2 (out), 7 RA4 (in), 8 DY3 (out), 9 RA5 (in), 10 VSS (power), 11 GND (power), 12 RY5 (out), 13 DA3 (in), 14 RY4 (out), 15 DA2 (in), 16 DA1 (in), 17 RY3 (out), 18 RY2 (out), 19 RY1 (out), 20 VCC (power)

## GD75232PWR
designator U?
Multiple RS-232 Driver / Receiver, 0 to 70 degC, 20-Pin TSSOP (PW), Green (RoHS & no Sb/Br); Drivers Per Package: 3; Receivers Per Package: 5; Supply Voltage(s)(V): +/-9.0 & 5.0; ICC(Max)(mA): +/-25 & 30; RS-232: TRUE; DatasheetVersion: SLLS206J; PackageVersion: revG, Feb-2011; PackageReference: PW20; PackageDescription: 20-Pin Plastic Thin Small Outline Package 6.5 x 4.4 mm Body ,0.65 mm Pitch; SubFamily: RS-232; ComponentLink1Description: Manufacturer URL; ComponentLink1URL: www.ti.com; ComponentLink2Description: Datasheet; ComponentLink2URL: http://www.ti.com/general/docs/lit/getliterature.tsp?genericPartNumber=GD75232&fileType=pdf; ComponentLink3Description: Package Specification; ComponentLink3URL: http://www.ti.com/litv/pdf/mpds362
footprint TI-PW20_N (TSOP, 20-Leads, Body 6.5x4.4mm, Pitch 0.65mm, IPC Medium Density)
footprint TI-PW20_L (TSOP, 20-Leads, Body 6.5x4.4mm, Pitch 0.65mm, IPC High Density)
footprint TI-PW20_M (TSOP, 20-Leads, Body 6.5x4.4mm, Pitch 0.65mm, IPC Low Density)
pins: 1 VDD (power), 2 RA1 (in), 3 RA2 (in), 4 RA3 (in), 5 DY1 (out), 6 DY2 (out), 7 RA4 (in), 8 DY3 (out), 9 RA5 (in), 10 VSS (power), 11 GND (power), 12 RY5 (out), 13 DA3 (in), 14 RY4 (out), 15 DA2 (in), 16 DA1 (in), 17 RY3 (out), 18 RY2 (out), 19 RY1 (out), 20 VCC (power)

## GD75232PWRE4
designator U?
Multiple RS-232 Driver / Receiver, 0 to 70 degC, 20-Pin TSSOP (PW), Green (RoHS & no Sb/Br); Drivers Per Package: 3; Receivers Per Package: 5; Supply Voltage(s)(V): +/-9.0 & 5.0; ICC(Max)(mA): +/-25 & 30; RS-232: TRUE; DatasheetVersion: SLLS206J; PackageVersion: revG, Feb-2011; PackageReference: PW20; PackageDescription: 20-Pin Plastic Thin Small Outline Package 6.5 x 4.4 mm Body ,0.65 mm Pitch; SubFamily: RS-232; ComponentLink1Description: Manufacturer URL; ComponentLink1URL: www.ti.com; ComponentLink2Description: Datasheet; ComponentLink2URL: http://www.ti.com/general/docs/lit/getliterature.tsp?genericPartNumber=GD75232&fileType=pdf; ComponentLink3Description: Package Specification; ComponentLink3URL: http://www.ti.com/litv/pdf/mpds362
footprint TI-PW20_N (TSOP, 20-Leads, Body 6.5x4.4mm, Pitch 0.65mm, IPC Medium Density)
footprint TI-PW20_L (TSOP, 20-Leads, Body 6.5x4.4mm, Pitch 0.65mm, IPC High Density)
footprint TI-PW20_M (TSOP, 20-Leads, Body 6.5x4.4mm, Pitch 0.65mm, IPC Low Density)
pins: 1 VDD (power), 2 RA1 (in), 3 RA2 (in), 4 RA3 (in), 5 DY1 (out), 6 DY2 (out), 7 RA4 (in), 8 DY3 (out), 9 RA5 (in), 10 VSS (power), 11 GND (power), 12 RY5 (out), 13 DA3 (in), 14 RY4 (out), 15 DA2 (in), 16 DA1 (in), 17 RY3 (out), 18 RY2 (out), 19 RY1 (out), 20 VCC (power)

## GD75232PWRG4
designator U?
Multiple RS-232 Driver / Receiver, 0 to 70 degC, 20-Pin TSSOP (PW), Green (RoHS & no Sb/Br); Drivers Per Package: 3; Receivers Per Package: 5; Supply Voltage(s)(V): +/-9.0 & 5.0; ICC(Max)(mA): +/-25 & 30; RS-232: TRUE; DatasheetVersion: SLLS206J; PackageVersion: revG, Feb-2011; PackageReference: PW20; PackageDescription: 20-Pin Plastic Thin Small Outline Package 6.5 x 4.4 mm Body ,0.65 mm Pitch; SubFamily: RS-232; ComponentLink1Description: Manufacturer URL; ComponentLink1URL: www.ti.com; ComponentLink2Description: Datasheet; ComponentLink2URL: http://www.ti.com/general/docs/lit/getliterature.tsp?genericPartNumber=GD75232&fileType=pdf; ComponentLink3Description: Package Specification; ComponentLink3URL: http://www.ti.com/litv/pdf/mpds362
footprint TI-PW20_N (TSOP, 20-Leads, Body 6.5x4.4mm, Pitch 0.65mm, IPC Medium Density)
footprint TI-PW20_L (TSOP, 20-Leads, Body 6.5x4.4mm, Pitch 0.65mm, IPC High Density)
footprint TI-PW20_M (TSOP, 20-Leads, Body 6.5x4.4mm, Pitch 0.65mm, IPC Low Density)
pins: 1 VDD (power), 2 RA1 (in), 3 RA2 (in), 4 RA3 (in), 5 DY1 (out), 6 DY2 (out), 7 RA4 (in), 8 DY3 (out), 9 RA5 (in), 10 VSS (power), 11 GND (power), 12 RY5 (out), 13 DA3 (in), 14 RY4 (out), 15 DA2 (in), 16 DA1 (in), 17 RY3 (out), 18 RY2 (out), 19 RY1 (out), 20 VCC (power)

## GD75323DW
designator U?
Multiple RS-232 Driver / Receiver, 0 to 70 degC, 20-Pin SOIC (DW), Green (RoHS & no Sb/Br); Drivers Per Package: 5; Receivers Per Package: 3; Supply Voltage(s)(V): +/-9.0 & 5.0; ICC(Max)(mA): +/-32 & 20; DatasheetVersion: SLLS213A; PackageVersion: revG, Jan-2011; PackageReference: DW20; PackageDescription: 20-Pin Plastic Small Outline Integrated Circuit, 12.8 x 7.5 mm, Pitch 1.27 mm Pitch; SubFamily: RS-232; ComponentLink1Description: Manufacturer URL; ComponentLink1URL: www.ti.com; ComponentLink2Description: Datasheet; ComponentLink2URL: http://www.ti.com/general/docs/lit/getliterature.tsp?genericPartNumber=GD75323&fileType=pdf; ComponentLink3Description: Package Specification; ComponentLink3URL: http://www.ti.com/litv/pdf/mpds173a
footprint TI-DW20_N (SOIC, 20-Leads, Body 12.8x7.5mm, Pitch 1.27mm, IPC Medium Density)
footprint TI-DW20_L (SOIC, 20-Leads, Body 12.8x7.5mm, Pitch 1.27mm, IPC High Density)
footprint TI-DW20_M (SOIC, 20-Leads, Body 12.8x7.5mm, Pitch 1.27mm, IPC Low Density)
pins: 1 VCC (power), 2 1DA (in), 3 2DA (in), 4 3DA (in), 5 ~{1RY} (out), 6 ~{2RY} (out), 7 4DA (in), 8 ~{3RY} (out), 9 5DA (in), 10 GND (power), 11 VSS (power), 12 ~{5DY} (out), 13 3RA (in), 14 ~{4DY} (out), 15 2RA (in), 16 1RA (in), 17 ~{3DY} (out), 18 ~{2DY} (out), 19 ~{1DY} (out), 20 VDD (power)

## GD75323DWE4
designator U?
Multiple RS-232 Driver / Receiver, 0 to 70 degC, 20-Pin SOIC (DW), Green (RoHS & no Sb/Br); Drivers Per Package: 5; Receivers Per Package: 3; Supply Voltage(s)(V): +/-9.0 & 5.0; ICC(Max)(mA): +/-32 & 20; DatasheetVersion: SLLS213A; PackageVersion: revG, Jan-2011; PackageReference: DW20; PackageDescription: 20-Pin Plastic Small Outline Integrated Circuit, 12.8 x 7.5 mm, Pitch 1.27 mm Pitch; SubFamily: RS-232; ComponentLink1Description: Manufacturer URL; ComponentLink1URL: www.ti.com; ComponentLink2Description: Datasheet; ComponentLink2URL: http://www.ti.com/general/docs/lit/getliterature.tsp?genericPartNumber=GD75323&fileType=pdf; ComponentLink3Description: Package Specification; ComponentLink3URL: http://www.ti.com/litv/pdf/mpds173a
footprint TI-DW20_N (SOIC, 20-Leads, Body 12.8x7.5mm, Pitch 1.27mm, IPC Medium Density)
footprint TI-DW20_L (SOIC, 20-Leads, Body 12.8x7.5mm, Pitch 1.27mm, IPC High Density)
footprint TI-DW20_M (SOIC, 20-Leads, Body 12.8x7.5mm, Pitch 1.27mm, IPC Low Density)
pins: 1 VCC (power), 2 1DA (in), 3 2DA (in), 4 3DA (in), 5 ~{1RY} (out), 6 ~{2RY} (out), 7 4DA (in), 8 ~{3RY} (out), 9 5DA (in), 10 GND (power), 11 VSS (power), 12 ~{5DY} (out), 13 3RA (in), 14 ~{4DY} (out), 15 2RA (in), 16 1RA (in), 17 ~{3DY} (out), 18 ~{2DY} (out), 19 ~{1DY} (out), 20 VDD (power)

## GD75323DWG4
designator U?
Multiple RS-232 Driver / Receiver, 0 to 70 degC, 20-Pin SOIC (DW), Green (RoHS & no Sb/Br); Drivers Per Package: 5; Receivers Per Package: 3; Supply Voltage(s)(V): +/-9.0 & 5.0; ICC(Max)(mA): +/-32 & 20; DatasheetVersion: SLLS213A; PackageVersion: revG, Jan-2011; PackageReference: DW20; PackageDescription: 20-Pin Plastic Small Outline Integrated Circuit, 12.8 x 7.5 mm, Pitch 1.27 mm Pitch; SubFamily: RS-232; ComponentLink1Description: Manufacturer URL; ComponentLink1URL: www.ti.com; ComponentLink2Description: Datasheet; ComponentLink2URL: http://www.ti.com/general/docs/lit/getliterature.tsp?genericPartNumber=GD75323&fileType=pdf; ComponentLink3Description: Package Specification; ComponentLink3URL: http://www.ti.com/litv/pdf/mpds173a
footprint TI-DW20_N (SOIC, 20-Leads, Body 12.8x7.5mm, Pitch 1.27mm, IPC Medium Density)
footprint TI-DW20_L (SOIC, 20-Leads, Body 12.8x7.5mm, Pitch 1.27mm, IPC High Density)
footprint TI-DW20_M (SOIC, 20-Leads, Body 12.8x7.5mm, Pitch 1.27mm, IPC Low Density)
pins: 1 VCC (power), 2 1DA (in), 3 2DA (in), 4 3DA (in), 5 ~{1RY} (out), 6 ~{2RY} (out), 7 4DA (in), 8 ~{3RY} (out), 9 5DA (in), 10 GND (power), 11 VSS (power), 12 ~{5DY} (out), 13 3RA (in), 14 ~{4DY} (out), 15 2RA (in), 16 1RA (in), 17 ~{3DY} (out), 18 ~{2DY} (out), 19 ~{1DY} (out), 20 VDD (power)

## GD75323DWR
designator U?
Multiple RS-232 Driver / Receiver, 0 to 70 degC, 20-Pin SOIC (DW), Green (RoHS & no Sb/Br); Drivers Per Package: 5; Receivers Per Package: 3; Supply Voltage(s)(V): +/-9.0 & 5.0; ICC(Max)(mA): +/-32 & 20; DatasheetVersion: SLLS213A; PackageVersion: revG, Jan-2011; PackageReference: DW20; PackageDescription: 20-Pin Plastic Small Outline Integrated Circuit, 12.8 x 7.5 mm, Pitch 1.27 mm Pitch; SubFamily: RS-232; ComponentLink1Description: Manufacturer URL; ComponentLink1URL: www.ti.com; ComponentLink2Description: Datasheet; ComponentLink2URL: http://www.ti.com/general/docs/lit/getliterature.tsp?genericPartNumber=GD75323&fileType=pdf; ComponentLink3Description: Package Specification; ComponentLink3URL: http://www.ti.com/litv/pdf/mpds173a
footprint TI-DW20_N (SOIC, 20-Leads, Body 12.8x7.5mm, Pitch 1.27mm, IPC Medium Density)
footprint TI-DW20_L (SOIC, 20-Leads, Body 12.8x7.5mm, Pitch 1.27mm, IPC High Density)
footprint TI-DW20_M (SOIC, 20-Leads, Body 12.8x7.5mm, Pitch 1.27mm, IPC Low Density)
pins: 1 VCC (power), 2 1DA (in), 3 2DA (in), 4 3DA (in), 5 ~{1RY} (out), 6 ~{2RY} (out), 7 4DA (in), 8 ~{3RY} (out), 9 5DA (in), 10 GND (power), 11 VSS (power), 12 ~{5DY} (out), 13 3RA (in), 14 ~{4DY} (out), 15 2RA (in), 16 1RA (in), 17 ~{3DY} (out), 18 ~{2DY} (out), 19 ~{1DY} (out), 20 VDD (power)

## GD75323DWRE4
designator U?
Multiple RS-232 Driver / Receiver, 0 to 70 degC, 20-Pin SOIC (DW), Green (RoHS & no Sb/Br); Drivers Per Package: 5; Receivers Per Package: 3; Supply Voltage(s)(V): +/-9.0 & 5.0; ICC(Max)(mA): +/-32 & 20; DatasheetVersion: SLLS213A; PackageVersion: revG, Jan-2011; PackageReference: DW20; PackageDescription: 20-Pin Plastic Small Outline Integrated Circuit, 12.8 x 7.5 mm, Pitch 1.27 mm Pitch; SubFamily: RS-232; ComponentLink1Description: Manufacturer URL; ComponentLink1URL: www.ti.com; ComponentLink2Description: Datasheet; ComponentLink2URL: http://www.ti.com/general/docs/lit/getliterature.tsp?genericPartNumber=GD75323&fileType=pdf; ComponentLink3Description: Package Specification; ComponentLink3URL: http://www.ti.com/litv/pdf/mpds173a
footprint TI-DW20_N (SOIC, 20-Leads, Body 12.8x7.5mm, Pitch 1.27mm, IPC Medium Density)
footprint TI-DW20_L (SOIC, 20-Leads, Body 12.8x7.5mm, Pitch 1.27mm, IPC High Density)
footprint TI-DW20_M (SOIC, 20-Leads, Body 12.8x7.5mm, Pitch 1.27mm, IPC Low Density)
pins: 1 VCC (power), 2 1DA (in), 3 2DA (in), 4 3DA (in), 5 ~{1RY} (out), 6 ~{2RY} (out), 7 4DA (in), 8 ~{3RY} (out), 9 5DA (in), 10 GND (power), 11 VSS (power), 12 ~{5DY} (out), 13 3RA (in), 14 ~{4DY} (out), 15 2RA (in), 16 1RA (in), 17 ~{3DY} (out), 18 ~{2DY} (out), 19 ~{1DY} (out), 20 VDD (power)

## GD75323DWRG4
designator U?
Multiple RS-232 Driver / Receiver, 0 to 70 degC, 20-Pin SOIC (DW), Green (RoHS & no Sb/Br); Drivers Per Package: 5; Receivers Per Package: 3; Supply Voltage(s)(V): +/-9.0 & 5.0; ICC(Max)(mA): +/-32 & 20; DatasheetVersion: SLLS213A; PackageVersion: revG, Jan-2011; PackageReference: DW20; PackageDescription: 20-Pin Plastic Small Outline Integrated Circuit, 12.8 x 7.5 mm, Pitch 1.27 mm Pitch; SubFamily: RS-232; ComponentLink1Description: Manufacturer URL; ComponentLink1URL: www.ti.com; ComponentLink2Description: Datasheet; ComponentLink2URL: http://www.ti.com/general/docs/lit/getliterature.tsp?genericPartNumber=GD75323&fileType=pdf; ComponentLink3Description: Package Specification; ComponentLink3URL: http://www.ti.com/litv/pdf/mpds173a
footprint TI-DW20_N (SOIC, 20-Leads, Body 12.8x7.5mm, Pitch 1.27mm, IPC Medium Density)
footprint TI-DW20_L (SOIC, 20-Leads, Body 12.8x7.5mm, Pitch 1.27mm, IPC High Density)
footprint TI-DW20_M (SOIC, 20-Leads, Body 12.8x7.5mm, Pitch 1.27mm, IPC Low Density)
pins: 1 VCC (power), 2 1DA (in), 3 2DA (in), 4 3DA (in), 5 ~{1RY} (out), 6 ~{2RY} (out), 7 4DA (in), 8 ~{3RY} (out), 9 5DA (in), 10 GND (power), 11 VSS (power), 12 ~{5DY} (out), 13 3RA (in), 14 ~{4DY} (out), 15 2RA (in), 16 1RA (in), 17 ~{3DY} (out), 18 ~{2DY} (out), 19 ~{1DY} (out), 20 VDD (power)